# EAGLE library part ESP8266-07 (library IoT)
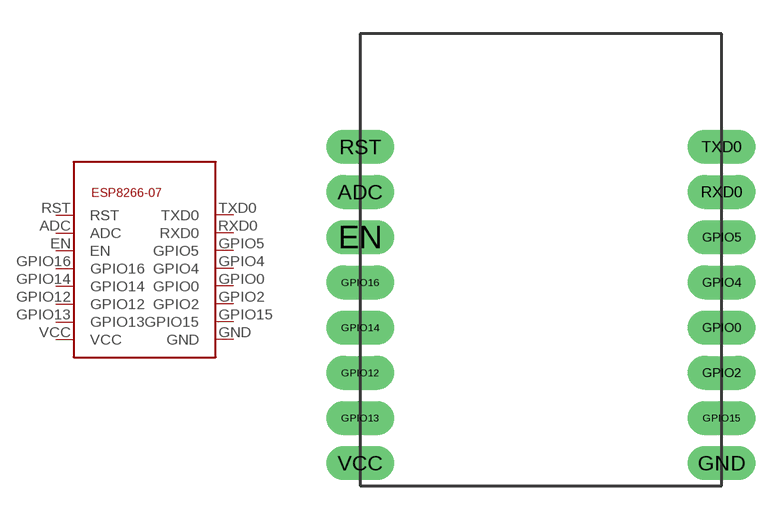
[diagram p0: symbol with the pads of ESP8266-07; footprint ESP8266-07]

Designator prefix -

## ESP8266-07  [ESP8266-07]
ADC  ADC  in
EN  EN  in
GND  GND  pwr
GPIO0  GPIO0
GPIO2  GPIO2
GPIO4  GPIO4
GPIO5  GPIO5
GPIO12  GPIO12
GPIO13  GPIO13
GPIO14  GPIO14
GPIO15  GPIO15
GPIO16  GPIO16
RST  RST  in
RXD0  RXD0
TXD0  TXD0
VCC  VCC  pwr

## Footprint ESP8266-07 (pad centres in mm)
drill 1 pad 1.2 long: ADC -6,6; EN -6,4; GND 10,-6; GPIO0 10,0; GPIO2 10,-2; GPIO4 10,2; GPIO5 10,4; GPIO12 -6,-2; GPIO13 -6,-4; GPIO14 -6,0; GPIO15 10,-4; GPIO16 -6,2; RST -6,8; RXD0 10,6; TXD0 10,8; VCC -6,-6